# EAGLE library part PIC16F1459 (library PonLib)
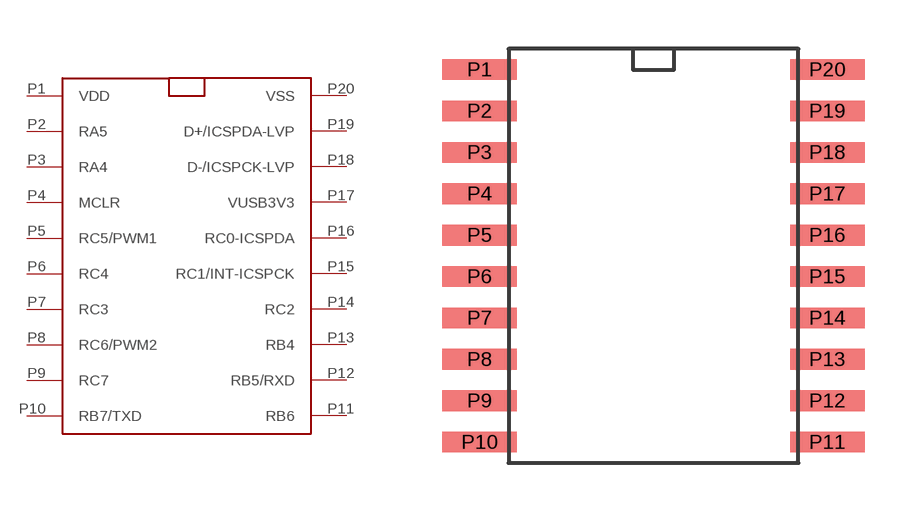
[diagram p16: symbol with the pads of SOIC-20-MICROCHIP; footprint SOIC-20-MICROCHIP]

Designator prefix -

## PIC16F1459  [SOIC-20-MICROCHIP]
P1  VDD
P2  RA5
P3  RA4
P4  MCLR
P5  RC5/PWM1
P6  RC4
P7  RC3
P8  RC6/PWM2
P9  RC7
P10  RB7/TXD
P11  RB6
P12  RB5/RXD
P13  RB4
P14  RC2
P15  RC1/INT-ICSPCK
P16  RC0-ICSPDA
P17  VUSB3V3
P18  D-/ICSPCK-LVP
P19  D+/ICSPDA-LVP
P20  VSS

## Footprint SOIC-20-MICROCHIP (pad centres in mm)
smd 2.286 x 0.635: P1 -5.334,5.715; P2 -5.334,4.445; P3 -5.334,3.175; P4 -5.334,1.905; P5 -5.334,0.635; P6 -5.334,-0.635; P7 -5.334,-1.905; P8 -5.334,-3.175; P9 -5.334,-4.445; P10 -5.334,-5.715; P11 5.334,-5.715; P12 5.334,-4.445; P13 5.334,-3.175; P14 5.334,-1.905; P15 5.334,-0.635; P16 5.334,0.635; P17 5.334,1.905; P18 5.334,3.175; P19 5.334,4.445; P20 5.334,5.715